# Altium schematic symbol library General.SchLib: 14 symbols
Pins are listed as number, name and electrical type; pins without a type are passive.

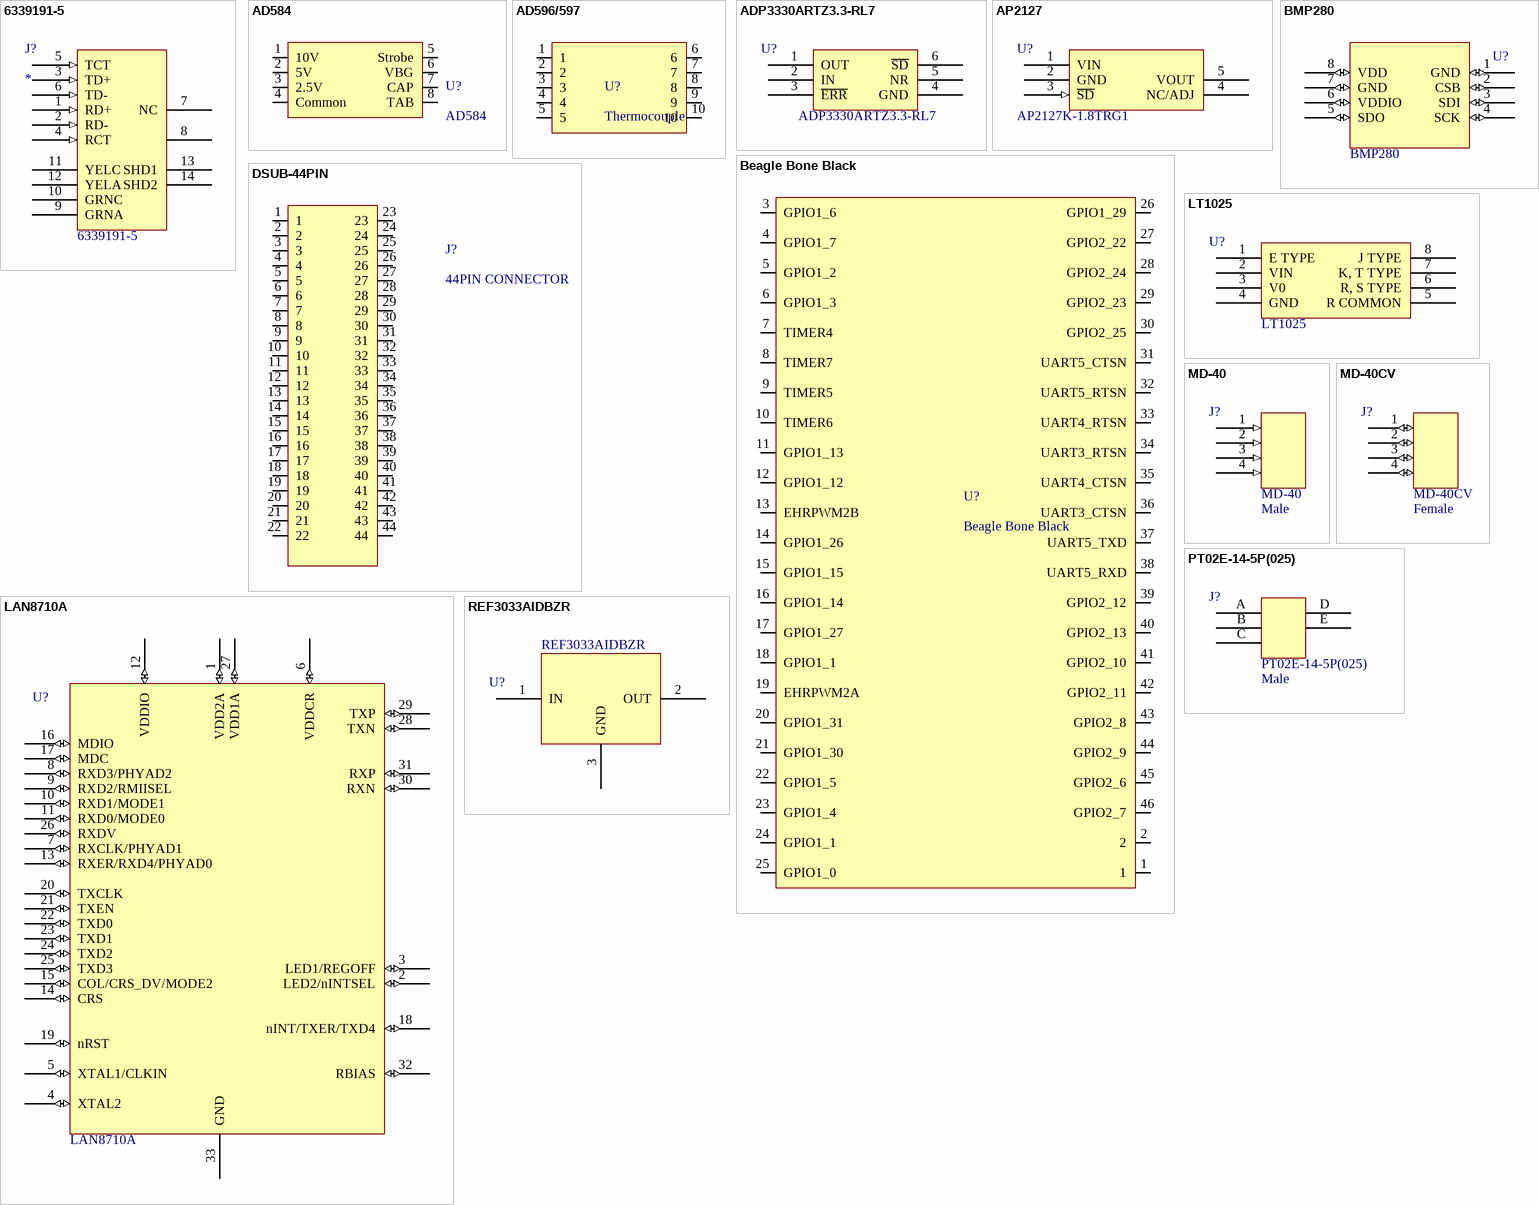
[diagram p0: symbols 6339191-5 to REF3033AIDBZR]

## 6339191-5
designator J?  Manufacturer P/N: 6339191-5
Ethernet Port; Manufacturer: TE Connectivity AMP Connectors; Digikey Link: https://www.digikey.com/product-detail/en/te-connectivity-amp-connectors/6339191-5/A109166CT-ND/4030384; Digikey P/N: A109166CT-ND
pins: 1 RD+ (in), 2 RD- (in), 3 TD+ (in), 4 RCT (in), 5 TCT (in), 6 TD- (in), 7 NC, 8 (power), 9 GRNA, 10 GRNC, 11 YELC, 12 YELA, 13 SHD1, 14 SHD2

## AD584
designator U?
pins: 1 10V (io), 2 5V (io), 3 2.5V (io), 4 Common (io), 5 Strobe (io), 6 VBG (io), 7 CAP (io), 8 TAB (io)

## AD596/597
designator U?, comment Thermocouple
AD596/597
pins: 1 (io), 2 (io), 3 (io), 4 (io), 5 (io), 6 (io), 7 (io), 8 (io), 9 (io), 10 (io)

## ADP3330ARTZ3.3-RL7
designator U?  (value not drawn)
ADP3330ARTZ3.3-RL7; Manufacturer: Analog Devices; Digikey P/N: ADP3330ARTZ3.3-RL7DKR-ND; Digikey Link: https://www.digikey.com/product-detail/en/analog-devices-inc/ADP3330ARTZ3.3-RL7/ADP3330ARTZ3.3-RL7DKR-ND/1788602; Manufacturer P/N: ADP3330ARTZ3.3-RL7
footprint SOT95P282X145-6N (SOT23, 6-Leads, Body 2.90x2.82mm, Pitch 0.95mm, IPC Medium Density)
pins: 1 OUT (power), 2 IN, 3 ~{ERR}, 4 GND (power), 5 NR, 6 ~{SD}

## AP2127
designator U?  (value not drawn)
AP2127K-1.8TRG1; Manufacturer: Diodes Incorporated; Digikey Link: https://www.digikey.com/product-detail/en/diodes-incorporated/AP2127K-1.8TRG1/AP2127K-1.8TRG1DICT-ND/4505274; Digikey P/N: AP2127K-1.8TRG1DICT-ND; Footprint: SOT-23-5; Manufacturer P/N: AP2127K-1.8TRG1
pins: 1 VIN (power), 2 GND (power), 3 ~{SD} (in), 4 NC/ADJ (power), 5 VOUT

## Beagle Bone Black
designator U?
footprint Cape Connector (SSHQ-123-D-06-G-LF)
footprint Cape Connector (SSHQ-123-D-06-G-LF)
pins: 1 (io), 2 (io), 3 GPIO1_6 (io), 4 GPIO1_7 (io), 5 GPIO1_2 (io), 6 GPIO1_3 (io), 7 TIMER4 (io), 8 TIMER7 (io), 9 TIMER5 (io), 10 TIMER6 (io), 11 GPIO1_13 (io), 12 GPIO1_12 (io), 13 EHRPWM2B (io), 14 GPIO1_26 (io), 15 GPIO1_15 (io), 16 GPIO1_14 (io), 17 GPIO1_27 (io), 18 GPIO1_1 (io), 19 EHRPWM2A (io), 20 GPIO1_31 (io), 21 GPIO1_30 (io), 22 GPIO1_5 (io), 23 GPIO1_4 (io), 24 GPIO1_1 (io), 25 GPIO1_0 (io), 26 GPIO1_29 (io), 27 GPIO2_22 (io), 28 GPIO2_24 (io), 29 GPIO2_23 (io), 30 GPIO2_25 (io), 31 UART5_CTSN (io), 32 UART5_RTSN (io), 33 UART4_RTSN (io), 34 UART3_RTSN (io), 35 UART4_CTSN (io), 36 UART3_CTSN (io), 37 UART5_TXD (io), 38 UART5_RXD (io), 39 GPIO2_12 (io), 40 GPIO2_13 (io), 41 GPIO2_10 (io), 42 GPIO2_11 (io), 43 GPIO2_8 (io), 44 GPIO2_9 (io), 45 GPIO2_6 (io), 46 GPIO2_7 (io)

## BMP280
designator U?  Manufacturer P/N: BMP280  (hidden comment: *)
Manufacturer: Bosch Sensortec; Used for:: Launchy RIO; Digikey Link: https://www.digikey.com/product-detail/en/bosch-sensortec/BMP280/828-1064-1-ND/6136315; Digikey P/N: 828-1064-1-ND; Footprint: 8-SMD
pins: 1 GND (io), 2 CSB (io) "Chip Select", 3 SDI (io) "Serial Data Input", 4 SCK (io) "Serial Clock Input", 5 SDO (io) "Serial Data Output", 6 VDDIO (io) "Digital Interface Supply", 7 GND (io), 8 VDD (io) "Analog Supply"

## DSUB-44PIN
designator J?, comment 44PIN CONNECTOR
A-HDF44LL-WP
footprint DSUB-44pin (A-HDF44LL-WP)
pins: 1 (io), 2 (io), 3 (io), 4 (io), 5 (io), 6 (io), 7 (io), 8 (io), 9 (io), 10 (io), 11 (io), 12 (io), 13 (io), 14 (io), 15 (io), 16 (io), 17 (io), 18 (io), 19 (io), 20 (io), 21 (io), 22 (io), 23 (io), 24 (io), 25 (io), 26 (io), 27 (io), 28 (io), 29 (io), 30 (io), 31 (io), 32 (io), 33 (io), 34 (io), 35 (io), 36 (io), 37 (io), 38 (io), 39 (io), 40 (io), 41 (io), 42 (io), 43 (io), 44 (io)

## LAN8710A
designator U?  (value not drawn)
LAN8710A; Manufacturer: Microchip Technology; Digikey P/N: LAN8710AI-EZK-TR-ND; Footprint: QFC-32; Digikey Link: https://www.digikey.com/product-detail/en/microchip-technology/LAN8710AI-EZK-TR/LAN8710AI-EZK-TR-ND/3872108; Manufacturer P/N: LAN8710A
footprint QFN-32_UH-L
footprint QFN50P500X500X850_HS-33N (QFN, 32-Leads, Body 5.00x5.00mm, Pitch 0.50mm, Thermal Pad 3.30x3.30mm, IPC Medium Density)
pins: 1 VDD2A (io), 2 LED2/nINTSEL (io), 3 LED1/REGOFF (io), 4 XTAL2 (io), 5 XTAL1/CLKIN (io), 6 VDDCR (io), 7 RXCLK/PHYAD1 (io), 8 RXD3/PHYAD2 (io), 9 RXD2/RMIISEL (io), 10 RXD1/MODE1 (io), 11 RXD0/MODE0 (io), 12 VDDIO (io), 13 RXER/RXD4/PHYAD0 (io), 14 CRS (io), 15 COL/CRS_DV/MODE2 (io), 16 MDIO (io), 17 MDC (io), 18 nINT/TXER/TXD4 (io), 19 nRST (io), 20 TXCLK (io), 21 TXEN (io), 22 TXD0 (io), 23 TXD1 (io), 24 TXD2 (io), 25 TXD3 (io), 26 RXDV (io), 27 VDD1A (io), 28 TXN (io), 29 TXP (io), 30 RXN (io), 31 RXP (io), 32 RBIAS (io), 33 GND (power) "Ground Pad"

## LT1025
designator U?  (value not drawn)
LT1025; Manufacturer: Linear Technology; Digikey P/N: LT1025CS8#PBF-ND; Digikey Link: https://www.digikey.com/product-detail/en/LT1025CS8%23PBF/LT1025CS8%23PBF-ND/962708; Footprint: 8-SOIC; Manufacturer P/N: LT1025
pins: 1 E TYPE, 2 VIN, 3 V0, 4 GND, 5 R COMMON, 6 R, S TYPE, 7 K, T TYPE, 8 J TYPE

## MD-40
designator J?  Gender: Male  (hidden comment: *)
MD-40; Manufacturer: CUI, Inc.; Digikey P/N: CP-2040-ND; Digikey Link: https://www.digikey.com/product-detail/en/cui-inc/MD-40/CP-2040-ND/96912; Manufacturer P/N: MD-40
pins: 1 (in), 2 (in), 3 (in), 4 (in)

## MD-40CV
designator J?  Gender: Female  (hidden comment: *)
MD-40CV; Manufacturer: CUI, Inc.; Digikey Link: https://www.digikey.com/product-detail/en/cui-inc/MD-40CV/CP-2840-ND/352861; Digikey P/N: CP-2840-ND; Manufacturer P/N: MD-40CV
pins: 1 (io), 2 (io), 3 (io), 4 (io)

## PT02E-14-5P(025)
designator J?  Gender: Male  (hidden comment: *)
PT02E-14-5P(025); Manufacturer: Amphenol Industrial Operations; Digikey P/N: PT02E-14-5P(025)-ND; Digikey Link: https://www.digikey.com/product-detail/en/amphenol-industrial-operations/PT02E-14-5P(025)/PT02E-14-5P(025)-ND/1209810; Manufacturer P/N: PT02E-14-5P(025)
pins: A, B, C, D, E

## REF3033AIDBZR
designator U?  (value not drawn)
REF3033AIDBZR; Manufacturer: Texas Instrument; Digikey Link: https://www.digikey.com/product-detail/en/texas-instruments/REF3033AIDBZR/296-26324-1-ND/2254967; Digikey P/N: 296-26324-1-ND; Manufacturer P/N: REF3033AIDBZR
footprint SOT95P282X145-3N (SOT23, 3-Leads, Body 2.90x2.82mm, Pitch 0.95mm, IPC Medium Density)
pins: 1 IN, 2 OUT, 3 GND